# Altium footprint library 640452-2.PcbLib: 1 footprints
Each footprint in its own frame and in the unit in brackets; x right, y up, seen from the top. Pads: shape width x height; smd on the part's side, far side on the other; paste and mask are expansions set on the pad; w line width, h text height; cw(c..) or ccw(c..) is an arc to the next point about the centre after c.
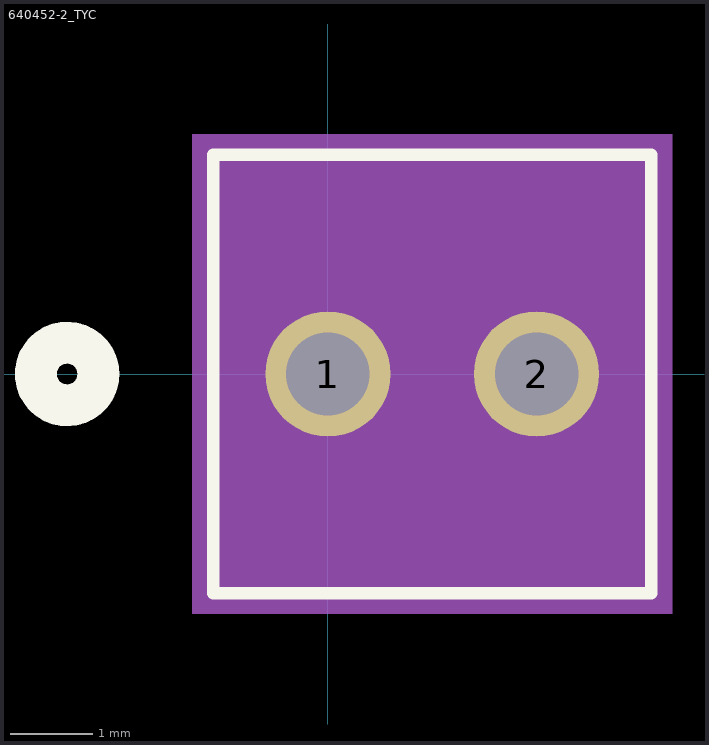
[diagram p0: the footprint, top view; thin cyan lines are the x and y axes]

## 640452-2_TYC [mil]
pads (2):
  round 60 hole 40 mask+0: 1(0,0) 2(100,0)
Top Overlay:
  circle w20: c-125,0 r15
  lines w6: -55,-105 155,-105 155,105 -55,105 -55,-105
Bottom Overlay:
  circle w20: c-125,0 r15
Mechanical 5:
  region: -65,115 165,115 165,-115 -65,-115
Mechanical 13:
  circle w20: c0,-75 r15
  lines w1: -50,-100 150,-100 150,100 -50,100 -50,-100
Mechanical 15:
  region: 160,110 -60,110 -60,-110 160,-110
  lines w6: -60,-110 -60,110 160,110 160,-110 -60,-110
3D body: height 10, standoff 0, extent 0,0 10,10